# Altium schematic symbol library AD8231TCPZ-EP-R7.SchLib: 1 symbol
Pins are listed as number, name and electrical type; pins without a type are passive.

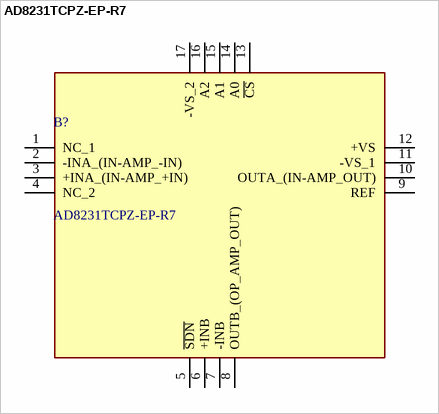
[diagram p0: symbol AD8231TCPZ-EP-R7]

## AD8231TCPZ-EP-R7
designator B?
Instrumentation Amplifiers Low Volt Low Drift Signal Condition Amp; Manufacturer_Name: Analog Devices; Geometry.Height: 0.8mm; Mouser Part Number: 584-AD8231TCPZ-EP-R7; Mouser Price/Stock: https://www.mouser.co.uk/ProductDetail/Analog-Devices/AD8231TCPZ-EP-R7?qs=%2FtpEQrCGXCwVvPTzyZftPQ%3D%3D; Manufacturer_Part_Number: AD8231TCPZ-EP-R7; Datasheet Link: https://www.analog.com/media/en/technical-documentation/data-sheets/AD8231-EP.pdf
footprint QFN65P400X400X80-17N-D
pins: 1 NC_1, 2 -INA_(IN-AMP_-IN), 3 +INA_(IN-AMP_+IN), 4 NC_2, 5 ~{SDN}, 6 +INB, 7 -INB, 8 OUTB_(OP_AMP_OUT), 9 REF, 10 OUTA_(IN-AMP_OUT), 11 -VS_1, 12 +VS, 13 ~{CS}, 14 A0, 15 A1, 16 A2, 17 -VS_2